# Altium schematic symbol library MAX14930DASEplus.SchLib: 1 symbol
Pins are listed as number, name and electrical type; pins without a type are passive.

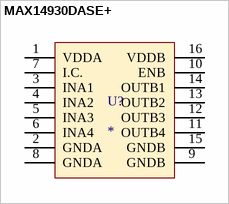
[diagram p0: symbol MAX14930DASE+]

## MAX14930DASE+
designator U?
footprint 21-0041_S16+1_MXM
pins: 1 VDDA, 2 GNDA, 3 INA1, 4 INA2, 5 INA3, 6 INA4, 7 I.C., 8 GNDA, 9 GNDB, 10 ENB, 11 OUTB4, 12 OUTB3, 13 OUTB2, 14 OUTB1, 15 GNDB, 16 VDDB